# Altium schematic symbol library Diodes.SchLib: 26 symbols
Pins are listed as number, name and electrical type; pins without a type are passive.

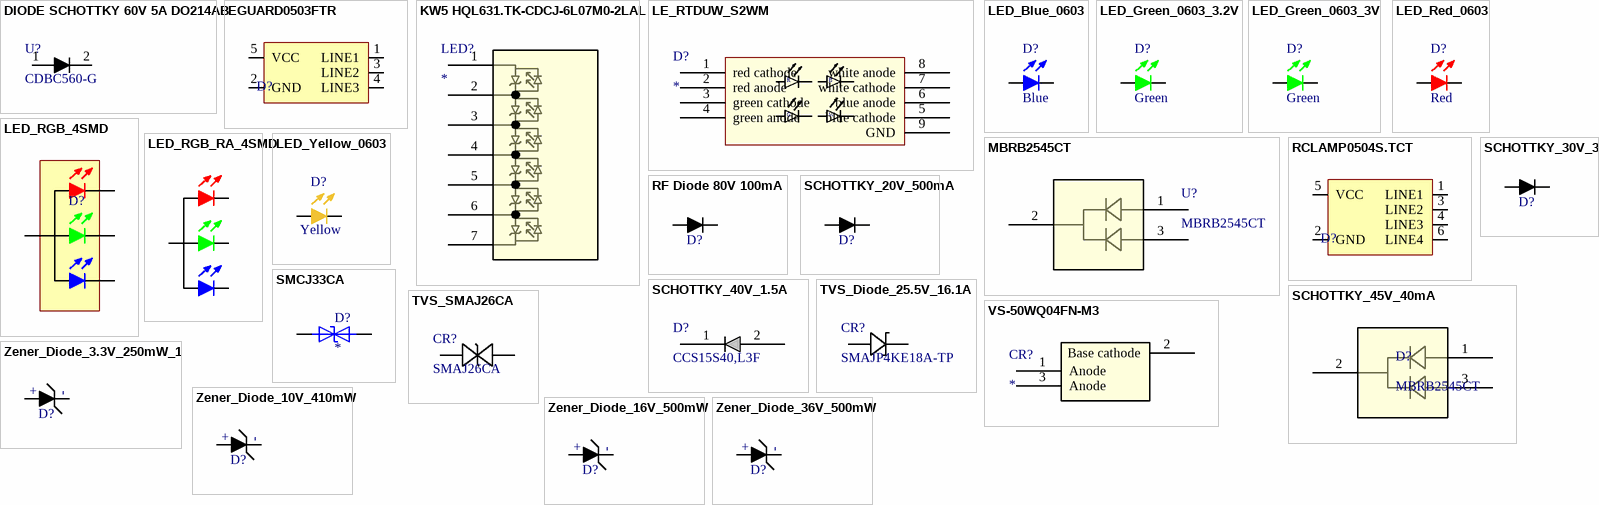
[diagram p0: symbols DIODE SCHOTTKY 60V 5A DO214AB to Zener_Diode_36V_500mW]

## DIODE SCHOTTKY 60V 5A DO214AB
designator U?, comment CDBC560-G
Diode Schottky 60 V 5A Surface Mount DO-214AB (SMC)
footprint DO-214AB
pins: 1, 2

## EGUARD0503FTR
designator D?, comment TVS DIODE 5VWM 25VC SOT353  (value not drawn)
Made By: Robert Pafford; Reverse Standoff Voltage: 5V (Max); Breakdown (Min) Voltage: 6V; Clamping (Max) Voltage: 25V; Supplier 1: Digi-Key; Supplier Part Number 1: 1655-2179-1-ND
footprint SOT-353
pins: 1 LINE1, 2 GND (power), 3 LINE2, 4 LINE3, 5 VCC (power)

## KW5 HQL631.TK-CDCJ-6L07M0-2LAL
designator LED?
No Description Available; Mfr_Name: ams OSRAM; Type: LED Lighting; RefDes: RefDes
footprint KW5HQL_OSR
pins: 1, 2, 3, 4, 5, 6, 7

## LE_RTDUW_S2WM
designator D?
LED OSTAR RGBW 625/527/453NM SMD; Designator: D; Supplier 1: Mouser; Supplier Part Number 1: 720-LERTDUWS2WMA2120
footprint LE_RTDUW_S2WM
pins: 1 red cathode, 2 red anode, 3 green cathode, 4 green anode, 5 blue cathode, 6 blue anode, 7 white cathode, 8 white anode, 9 GND
text: R; B; G; W

## LED_Blue_0603
designator D?, comment Color: Blue  (hidden comment: 150060BS75000)
LED Blue Vf= 3.2V If = 0.020A / 150060BS75000; Made By: Robert Pafford; Forward Current: 20mA; Forward Voltage: 3.2V; Package: 0603; Supplier 1: Digi-Key; Supplier Part Number 1: 732-4966-1-ND
footprint LED_0603 (LED 0603)
pins: 1, 2

## LED_Green_0603_3.2V
designator D?, comment Color: Green  (hidden comment: 150060GS75000)
LED Green Vf= 3.2V If = 0.025A / 150060GS75000; Made By: Flip B; Forward Current: 25mA; Supplier 1: Digi-Key; ComponentLink1Description: Datasheet; ComponentLink1URL: https://www.we-online.de/katalog/datasheet/150060GS75000.pdf; Supplier Part Number 1: 732-4971-1-ND; Forward Voltage: 3.2V; Package: 0603
footprint LED_0603 (LED 0603)
pins: 1, 2

## LED_Green_0603_3V
designator D?, comment Color: Green  (hidden comment: IN-S63AT5G)
LED Green Vf= 3V If = 0.005A / IN-S63AT5G; Made By: Robert Pafford; Forward Current: 5mA; ComponentLink1Description: Datasheet; ComponentLink1URL: https://www.we-online.de/katalog/datasheet/150060GS75000.pdf; Forward Voltage: 3V; Package: 0603; Supplier 1: Digi-Key; Supplier Part Number 1: 1830-1062-1-ND
footprint LED_0603 (LED 0603)
pins: 1, 2

## LED_Red_0603
designator D?, comment Color: Red  (hidden comment: 150060RS75000)
LED Red Vf= 2V If = 0.020A / 150060RS75000; Made By: Robert Pafford; Forward Current: 20mA; Forward Voltage: 2V; Package: 0603; Supplier 1: Digi-Key; Supplier Part Number 1: 732-4978-1-ND
footprint LED_0603 (LED 0603)
pins: 1, 2

## LED_RGB_4SMD
designator D?, comment EAST1616RGBB4  (value not drawn)
LED RGB CLEAR 4SMD; Made By: Robert Pafford; Red Forward Voltage: 1.8V; Red Forward Current: 5mA; Green Forward Voltage: 2.8V; ComponentLink1Description: Datasheet; ComponentLink1URL: https://everlightamericas.com/index.php?controller=attachment&id_attachment=3220; Package: 4-SMD; Green Forward Current: 5mA; Blue Forward Voltage: 2.8V; Blue Forward Current: 5mA; Color: RGB; Supplier 1: Digi-Key; Supplier Part Number 1: 1080-1552-1-ND
footprint LED_0606_4SMD
pins: 1, 2, 3 32, 4

## LED_RGB_RA_4SMD
designator D?, comment EASV3015RGBA0  (value not drawn)
LED RGB CLEAR 4SMD R/A; Made By: Robert Pafford; Red Forward Voltage: 2.0V; Red Forward Current: 25mA; Green Forward Voltage: 3.3V; Blue Forward Current: 20mA; ComponentLink1Description: Datasheet; ComponentLink1URL: https://everlightamericas.com/index.php?controller=attachment&id_attachment=3220; Package: 4-SMD; Green Forward Current: 25mA; Blue Forward Voltage: 3.3V; Color: RGB; Supplier 1: Digi-Key; Supplier Part Number 1: 1080-1502-1-ND; Supplier 2: Mouser; Supplier Part Number 2: 638-EASV3015RGBA0
footprint LED_4-SMD
pins: 1, 2, 3, 4

## LED_Yellow_0603
designator D?, comment Color: Yellow  (hidden comment: 150060YS75000)
LED Yellow Vf= 2V If = 0.020A / 150060YS75000; Made By: Robert Pafford; Forward Current: 20mA; Forward Voltage: 2V; Package: 0603; Supplier 1: Digi-Key; Supplier Part Number 1: 732-4981-1-ND
footprint LED_0603 (LED 0603)
pins: 1, 2

## MBRB2545CT
designator U?
Diode Array 1 Pair Common Cathode 45 V Surface Mount TO-263-3, D²Pak (2 Leads + Tab), TO-263AB; Mfr_Name: Vishay; Copyright: Copyright (C) 2023 Ultra Librarian. All rights reserved.; Manufacturer_Part_Number: MBRB2545CT; RefDes: RefDes; Type: DEV
footprint D2PAK_VIS
pins: 1, 2, 3

## RCLAMP0504S.TCT
designator D?, comment TVS DIODE 5VWM 25VC SOT23-6  (value not drawn)
25V Clamp 6A (8/20µs) Ipp Tvs Diode Surface Mount SOT-23-6; Made By: Robert Pafford; Reverse Standoff Voltage (Typ): 5V; Breakdown Voltage (Min): 6V; Supplier 1: Digi-Key; Supplier Part Number 1: RCLAMP0504SCT-ND; Clamping Voltage (Max): 25V
footprint SOT 23-6L (SOT23, 6-Leads, Body 2.95x2.80mm, Pitch 0.95mm, IPC Medium Density)
pins: 1 LINE1, 2 GND (power), 3 LINE2, 4 LINE3, 5 VCC (power), 6 LINE4

## RF Diode 80V 100mA
designator D?, comment BAR9002ELE6327XTMA1  (value not drawn)
RF Diode PIN - Single 80V 100 mA 250 mW PG-TSLP-2-19; Forward Current: 100mA; Voltage - Peak Reverse: 80V; Package: 0402
footprint DIODE_0402
pins: 1, 2

## SCHOTTKY_20V_500mA
designator D?, comment MBR0520LT3G  (value not drawn)
Schottky Diode, 20V reverse breakdown, 500mA, Vf = 0.385V; Made By: Flip B; ComponentLink1Description: Datasheet; ComponentLink1URL: https://www.onsemi.com/pdf/datasheet/mbr0520lt1-d.pdf; Forward Voltage: 0.385V; Forward Current: 500mA; Package: SOD-123; Supplier 1: Digi-Key; Supplier Part Number 1: MBR0520LT3GOSCT-ND
footprint SOD-123 (Schottky Diode SOD-123)
pins: 1, 2

## SCHOTTKY_30V_3A
designator D?, comment B330-13-F  (value not drawn)
Schottky Diode, 30V reverse breakdown, 3A, Vf = 0.500V; Made By: Tyson N.; Forward Voltage: 500mV; ComponentLink1Description: Datasheet; ComponentLink1URL: https://www.onsemi.com/pdf/datasheet/mbr0520lt1-d.pdf; Forward Current: 3A; Package: DO-214AB; Supplier 1: RSComponents; Supplier Part Number 1: 7513269
footprint DO-214AB
pins: 1, 2

## SCHOTTKY_40V_1.5A
designator D?, comment CCS15S40,L3F
DIODE SCHOTTKY 40V 1.5A CST2C; Mfr_Name: Toshiba Electronic Devices & Storage Corp.; Type: DEV; Copyright: Copyright (C) 2023 Ultra Librarian. All rights reserved.; Manufacturer_Part_Number: CCS15S40,L3F; RefDes: RefDes; Supplier 1: Digi-Key; Supplier Part Number 1: CCS15S40L3FCT-ND
footprint SOD-963   CST2C_TOS
pins: 1, 2

## SCHOTTKY_45V_40mA
designator D?, comment MBRB2545CT
DIODE ARRAY SCHOTTKY Vr 45V D2PAK; Made By: John Ulm; Vf: 700V; If: 25A; Vr: 45V; ComponentLink1Description: Datasheet; ComponentLink1URL: https://www.smc-diodes.com/propdf/MBRB2545CT%20N0043%20REV.B.pdf; Package: D2Pak; Supplier 1: Digi-Key; Supplier Part Number 1: MBRB2545CTT4GOSCT-ND
footprint D2PAK_VIS
pins: 1, 2, 3

## SMCJ33CA
designator D?
53.3V Clamp 28.1A Ipp Tvs Diode Surface Mount SMC (DO-214AB); MF: Bourns Inc.; MP: SMCJ33CA; Price: None; SnapEDA_Link: https://www.snapeda.com/parts/SMCJ33CA/Bourns/view-part/4833712/?ref=snap; Arrow_Electronics-Purchase-URL: https://snapeda.com/shop?store=Arrow+Electronics&id=4833712; Availability: Good; Mouser-Purchase-URL: https://snapeda.com/shop?store=Mouser&id=4833712; Value: *; DigiKey-Purchase-URL: https://snapeda.com/shop?store=DigiKey&id=4833712; Package: None; Supplier 1: Digikey; Supplier Part Number 1: SMCJ33CABCT-ND
footprint DIOM7959X262N
pins: 1, 2

## TVS_Diode_25.5V_16.1A
designator CR?, comment SMAJP4KE18A-TP
TVS DIODE 15.3VWM 25.5VC DO214AC; Mfr_Name: MCC; Type: DEV; Copyright: Copyright (C) 2023 Ultra Librarian. All rights reserved.; Manufacturer_Part_Number: SMAJP4KE18A-TP; RefDes: RefDes; Supplier 1: Arrow Electronics; Supplier Part Number 1: SMAJP4KE18A-TP
footprint DO-214AC
pins: 1 ANODE, 2 CATHODE

## TVS_SMAJ26CA
designator CR?, comment SMAJ26CA
TVS DIODE 26VWM 42.1VC DO214AC; Mfr_Name: Littelfuse Inc; Type: DEV; Copyright: Copyright (C) 2024 Ultra Librarian. All rights reserved.; Manufacturer_Part_Number: SMAJ26CA; RefDes: RefDes
footprint SMASeries_LTF
pins: 1, 2

## VS-50WQ04FN-M3
designator CR?
No Description Available; Mfr_Name: Vishay; RefDes: RefDes; Type: Type
footprint D2PAK_VIS
pins: 1 Anode, 2 Base cathode, 3 Anode

## Zener_Diode_3.3V_250mW_1
designator D?
Zener Diode | 3.3 V | 250 mW | SOT-23; Made By: Nathan A; Voltage - Zener: 10V; Power: 410mW; Package: SOD-123; ComponentLink1Description: Datasheet; ComponentLink1URL: https://www.panjit.com.tw/upload/datasheet/BZT52-C2V4_SERIES.pdf; Supplier 1: Newark; Supplier Part Number 1: 50AC7315
footprint SOD-123 (Schottky Diode SOD-123)
pins: 1, 2
text: +; -

## Zener_Diode_10V_410mW
designator D?
Zener Diode | 10 V | 410 mW | SOD 123; Made By: Nathan A; Voltage - Zener: 10V; Power: 410mW; Package: SOD-123; Supplier 1: Digi-Key; Supplier Part Number 1: 3757-BZT52-C10_R1_00001CT-ND; ComponentLink1Description: Datasheet; ComponentLink1URL: https://www.panjit.com.tw/upload/datasheet/BZT52-C2V4_SERIES.pdf
footprint SOD-123 (Schottky Diode SOD-123)
pins: 1, 2
text: +; -

## Zener_Diode_16V_500mW
designator D?
Zener Diode | 16 V | 500 mW | SOD-123; Made By: Flip B; Voltage - Zener: 16V; Power: 500mW; Package: SOD-123; ComponentLink1Description: Datasheet; ComponentLink1URL: https://www.panjit.com.tw/upload/datasheet/MMSZ5229A_SERIES.pdf; Supplier 1: Digi-Key; Supplier Part Number 1: 3757-MMSZ5246A_R1_00001CT-ND
footprint SOD-123 (Schottky Diode SOD-123)
pins: 1, 2
text: +; -

## Zener_Diode_36V_500mW
designator D?
Zener Diode 36 V 500 mW ±5% Surface Mount SOD-123; Made By: Flip B; Voltage - Zener: 16V; Power: 500mW; Package: SOD-123; Supplier 1: Digi-Key; Supplier Part Number 1: MMSZ4715-TPMSCT-ND
footprint SOD-123 (Schottky Diode SOD-123)
pins: 1, 2
text: +; -